# EAGLE library part RELAY,REED-COTORELAY-9200 (library QuantumOptics)
Reed Relay, SPST, 50 Ohm, Cotorelay #9200 series. Fits both J-lead and Gull-wing. http://rocky.digikey.com/WebLib/Coto%20Technology/Web%20Data/9200.pdf
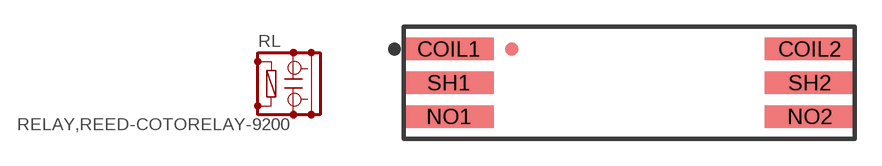
[diagram p57: symbol with the pads of RELAY,REED-COTORELAY-9200; footprint RELAY,REED-COTORELAY-9200]

Designator prefix RL

## RELAY,REED-COTORELAY-9200  [RELAY,REED-COTORELAY-9200]
COIL1  COIL1
COIL2  COIL2
NO1  NO1
NO2  NO2
SH1  SH1
SH2  SH2

## Footprint RELAY,REED-COTORELAY-9200 (pad centres in mm)
Reed Relay, SPST, 50 Ohm, Cotorelay #9200 series. Fits both J-lead and Gull-wing. http://rocky.digikey.com/WebLib/Coto%20Technology/Web%20Data/9200.pdf
smd 5.08 x 1.27: COIL1 -10.16,1.905; COIL2 10.16,1.905; NO1 -10.16,-1.905; NO2 10.16,-1.905; SH1 -10.16,0; SH2 10.16,0